# EAGLE library part EPM7096-J84 (library altera)
EPM7096 MAX 7000 family
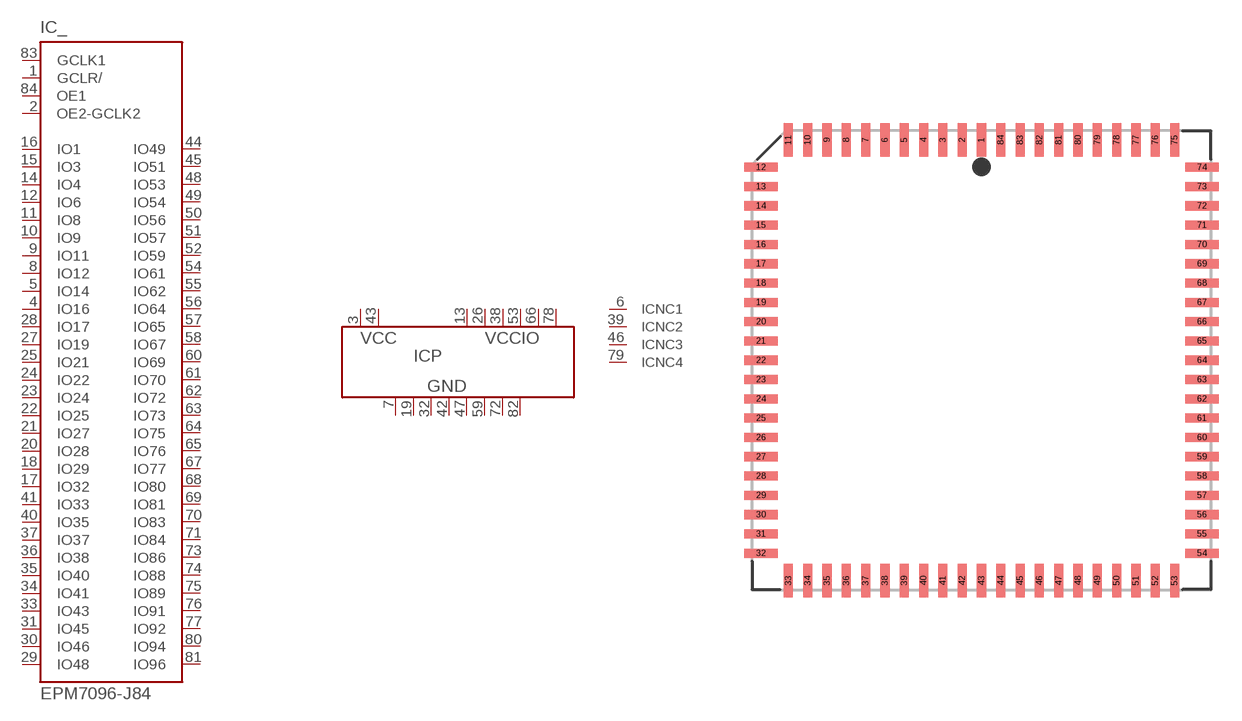
[diagram p7: symbol with the pads of PLCC84; footprint PLCC84]

Designator prefix IC; gates _=7096-84 P=PWR8-2-6 NC1=NC NC2=NC NC3=NC NC4=NC

## EPM7096-J84  [PLCC84]
1  _:GCLR/  in
2  _:OE2-GCLK2  in
3  P:VCC  pwr
4  _:IO16
5  _:IO14
6  NC1:NC  nc
7  P:GND  pwr
8  _:IO12
9  _:IO11
10  _:IO9
11  _:IO8
12  _:IO6
13  P:VCCIO  pwr
14  _:IO4
15  _:IO3
16  _:IO1
17  _:IO32
18  _:IO29
19  P:GND  pwr
20  _:IO28
21  _:IO27
22  _:IO25
23  _:IO24
24  _:IO22
25  _:IO21
26  P:VCCIO  pwr
27  _:IO19
28  _:IO17
29  _:IO48
30  _:IO46
31  _:IO45
32  P:GND  pwr
33  _:IO43
34  _:IO41
35  _:IO40
36  _:IO38
37  _:IO37
38  P:VCCIO  pwr
39  NC2:NC  nc
40  _:IO35
41  _:IO33
42  P:GND  pwr
43  P:VCC  pwr
44  _:IO49
45  _:IO51
46  NC3:NC  nc
47  P:GND  pwr
48  _:IO53
49  _:IO54
50  _:IO56
51  _:IO57
52  _:IO59
53  P:VCCIO  pwr
54  _:IO61
55  _:IO62
56  _:IO64
57  _:IO65
58  _:IO67
59  P:GND  pwr
60  _:IO69
61  _:IO70
62  _:IO72
63  _:IO73
64  _:IO75
65  _:IO76
66  P:VCCIO  pwr
67  _:IO77
68  _:IO80
69  _:IO81
70  _:IO83
71  _:IO84
72  P:GND  pwr
73  _:IO86
74  _:IO88
75  _:IO89
76  _:IO91
77  _:IO92
78  P:VCCIO  pwr
79  NC4:NC  nc
80  _:IO94
81  _:IO96
82  P:GND  pwr
83  _:GCLK1  in
84  _:OE1  in

## Footprint PLCC84 (pad centres in mm)
Plastic J-Lead Chip Carrier
smd 0.6 x 2.2: 1 0,14.5; 2 -1.27,14.5; 3 -2.54,14.5; 4 -3.81,14.5; 5 -5.08,14.5; 6 -6.35,14.5; 7 -7.62,14.5; 8 -8.89,14.5; 9 -10.16,14.5; 10 -11.43,14.5; 11 -12.7,14.5; 33 -12.7,-14.5; 34 -11.43,-14.5; 35 -10.16,-14.5; 36 -8.89,-14.5; 37 -7.62,-14.5; 38 -6.35,-14.5; 39 -5.08,-14.5; 40 -3.81,-14.5; 41 -2.54,-14.5; 42 -1.27,-14.5; 43 0,-14.5; 44 1.27,-14.5; 45 2.54,-14.5; 46 3.81,-14.5; 47 5.08,-14.5; 48 6.35,-14.5; 49 7.62,-14.5; 50 8.89,-14.5; 51 10.16,-14.5; 52 11.43,-14.5; 53 12.7,-14.5; 75 12.7,14.5; 76 11.43,14.5; 77 10.16,14.5; 78 8.89,14.5; 79 7.62,14.5; 80 6.35,14.5; 81 5.08,14.5; 82 3.81,14.5; 83 2.54,14.5; 84 1.27,14.5
smd 2.2 x 0.6: 12 -14.5,12.7; 13 -14.5,11.43; 14 -14.5,10.16; 15 -14.5,8.89; 16 -14.5,7.62; 17 -14.5,6.35; 18 -14.5,5.08; 19 -14.5,3.81; 20 -14.5,2.54; 21 -14.5,1.27; 22 -14.5,0; 23 -14.5,-1.27; 24 -14.5,-2.54; 25 -14.5,-3.81; 26 -14.5,-5.08; 27 -14.5,-6.35; 28 -14.5,-7.62; 29 -14.5,-8.89; 30 -14.5,-10.16; 31 -14.5,-11.43; 32 -14.5,-12.7; 54 14.5,-12.7; 55 14.5,-11.43; 56 14.5,-10.16; 57 14.5,-8.89; 58 14.5,-7.62; 59 14.5,-6.35; 60 14.5,-5.08; 61 14.5,-3.81; 62 14.5,-2.54; 63 14.5,-1.27; 64 14.5,0; 65 14.5,1.27; 66 14.5,2.54; 67 14.5,3.81; 68 14.5,5.08; 69 14.5,6.35; 70 14.5,7.62; 71 14.5,8.89; 72 14.5,10.16; 73 14.5,11.43; 74 14.5,12.7